# EAGLE library part WIDE_IN_REG (library aerial)
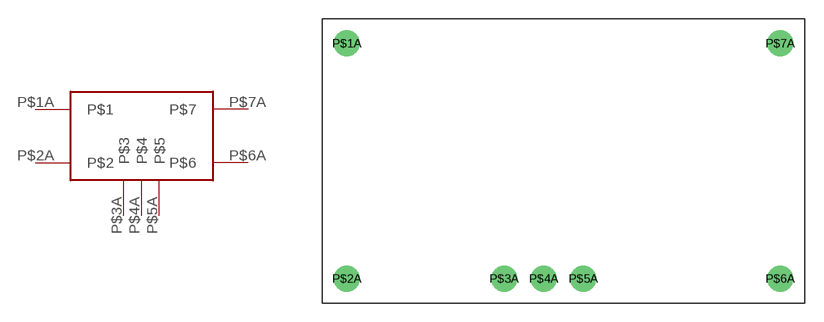
[diagram p7: symbol with the pads of WIDE_IN_REG; footprint WIDE_IN_REG]

Designator prefix -

## WIDE_IN_REG  [WIDE_IN_REG]
P$1A  P$1
P$2A  P$2
P$3A  P$3
P$4A  P$4
P$5A  P$5
P$6A  P$6
P$7A  P$7

## Footprint WIDE_IN_REG (pad centres in mm)
drill 1.4: P$1A 2,21; P$2A 2,2; P$3A 14.7,2; P$4A 17.9,2; P$5A 21.1,2; P$6A 37,2; P$7A 37,21